# Altium footprint library pedals-relays.PCBLIB: 4 footprints
Each footprint in its own frame and in the unit in brackets; x right, y up, seen from the top. Pads: shape width x height; smd on the part's side, far side on the other; paste and mask are expansions set on the pad; w line width, h text height; cw(c..) or ccw(c..) is an arc to the next point about the centre after c.
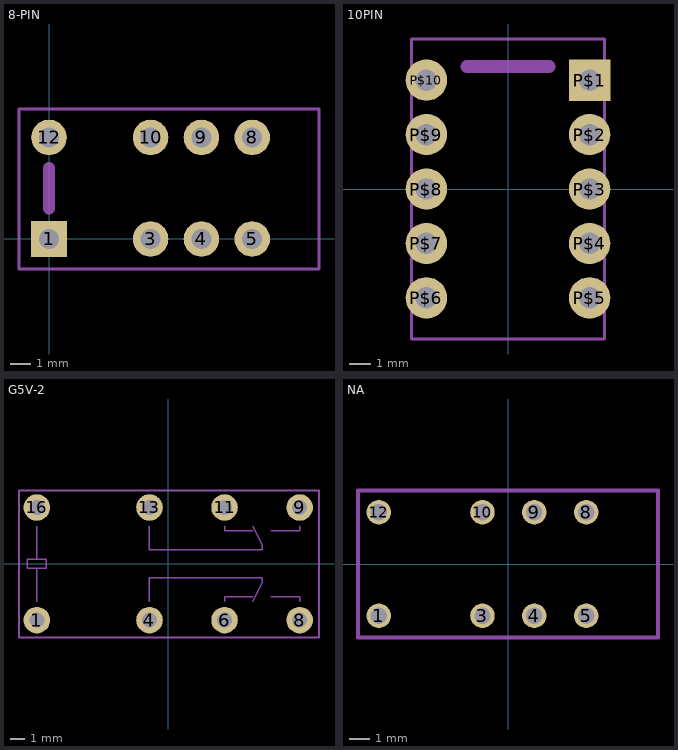
[diagram p0: the footprints below, top view; thin cyan lines are the x and y axes]

## 8-PIN [mil]
pads (8):
  rect 70x70 hole 39.37: 1(0,0)
  round 70 hole 39.37: 3(200,0) 4(300,0) 5(400,0) 8(400,200) 9(300,200) 10(200,200) 12(0,200)
Mechanical 2:
  lines w5: -59.06,-59.06 -59.06,255.91 531.5,255.91 531.5,-59.06 -59.06,-59.06
  lines w24: 0,60 0,140

## 10PIN [mil]
pads (10):
  rect 76x76 hole 39.37: P$1(150,200)
  round 76 hole 39.37: P$2(150,100) P$3(150,0) P$4(150,-100) P$5(150,-200) P$6(-150,-200) P$7(-150,-100) P$8(-150,0) P$9(-150,100) P$10(-150,200)
Mechanical 2:
  lines w5: -177.17,-275.59 -177.17,275.59 177.17,275.59 177.17,-275.59 -177.17,-275.59
  lines w24: -75,225 75,225

## G5V-2 [mm]
pads (8):
  round 1.8 hole 1: 1(-8.89,-3.81) 4(-1.27,-3.81) 6(3.81,-3.81) 8(8.89,-3.81) 9(8.89,3.81) 11(3.81,3.81) 13(-1.27,3.81) 16(-8.89,3.81)
Mechanical 2:
  lines w0.102: -8.89,-2.54 -8.89,-0.318 ; -8.89,2.54 -8.89,0.318 ; -1.27,-2.54 -1.27,-0.953 6.35,-0.953 6.35,-1.27 5.715,-2.54 ; -1.27,2.54 -1.27,0.953 6.35,0.953 6.35,1.27 5.715,2.54 ; 3.81,-2.54 3.81,-2.222 5.715,-2.222 ; 3.81,2.54 3.81,2.222 5.715,2.222 ; 6.985,-2.222 8.89,-2.222 8.89,-2.54 ; 6.985,2.222 8.89,2.222 8.89,2.54 ; -8.89,-0.318 -9.525,-0.318 -9.525,0.318 -8.89,0.318 ; -8.89,-0.318 -8.255,-0.318 -8.255,0.318 -8.89,0.318
  lines w0.152: -10.099,-4.979 10.201,-4.979 10.201,4.952 -10.099,4.952 -10.099,-4.979

## NA [mil]
pads (8):
  round 47.25 hole 31.5: 1(-250,-100) 3(-50,-100) 4(50,-100) 5(150,-100) 8(150,100) 9(50,100) 10(-50,100) 12(-250,100)
Mechanical 2:
  lines w8: -290.16,-141.73 288.58,-141.73 288.58,141.73 -290.16,141.73 -290.16,-141.73